# EAGLE library part OSTTH060160 (library con-ost)
5mm Terminal Header
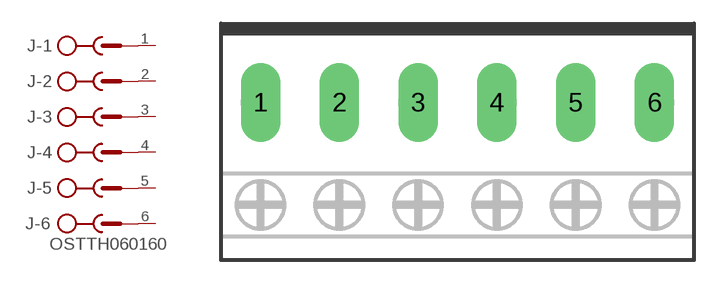
[diagram p11: symbol with the pads of EDSTL130-06; footprint EDSTL130-06]

Designator prefix J; gates -1=SK -2=SK -3=SK -4=SK -5=SK -6=SKV

## OSTTH060160  [EDSTL130-06]
1  -1:SK  pas
2  -2:SK  pas
3  -3:SK  pas
4  -4:SK  pas
5  -5:SK  pas
6  -6:SK  pas

## Footprint EDSTL130-06 (pad centres in mm)
5mm Pin Header for pluggable terminal blocks mating connector OSTTHXX0160
drill 1.676 long: 1 -12.5,0; 2 -7.5,0; 3 -2.5,0; 4 2.5,0; 5 7.5,0; 6 12.5,0